# Altium footprint library SN74AUP1G125DPWR.PcbLib: 1 footprints
Each footprint in its own frame and in the unit in brackets; x right, y up, seen from the top. Pads: shape width x height; smd on the part's side, far side on the other; paste and mask are expansions set on the pad; w line width, h text height; cw(c..) or ccw(c..) is an arc to the next point about the centre after c.
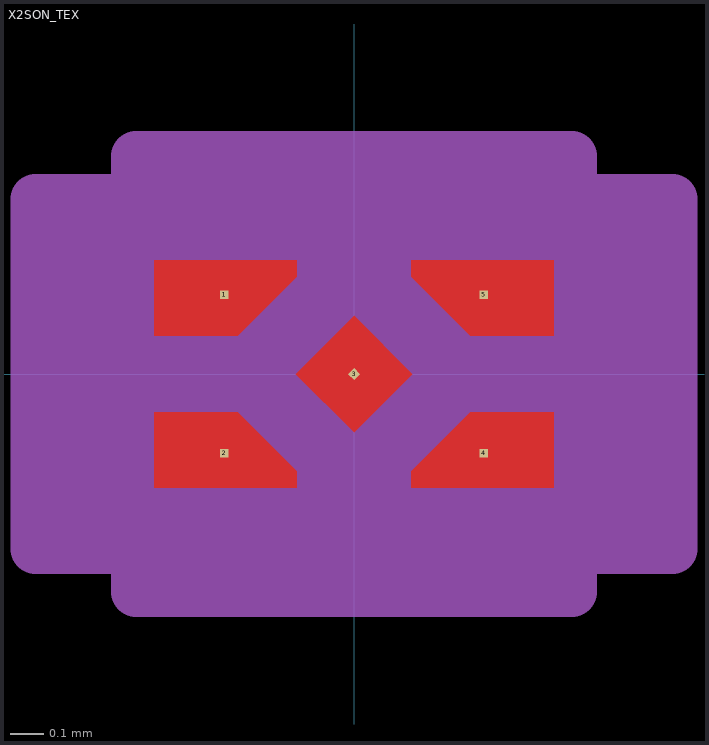
[diagram p0: the footprint, top view; thin cyan lines are the x and y axes]

## X2SON_TEX [mil]
pads (5):
  rect 1x1 smd paste+0 mask+0: 1(-15.5,9.45) 2(-15.5,-9.45) 4(15.5,-9.45) 5(15.5,9.45)
  rect 1x1 smd rot 45 paste+0 mask+0: 3(0,0)
Top Layer:
  region: 6.96,0 0,6.96 -6.96,0 0,-6.96
  region: -6.85,13.6 -23.86,13.59 -23.86,4.59 -13.86,4.59 -6.85,11.6
  region: 23.85,13.6 6.85,13.6 6.85,11.6 13.86,4.59 23.86,4.59
  region: 13.86,-4.59 23.86,-4.59 23.85,-13.6 6.85,-13.6 6.85,-11.6
  region: -13.86,-4.59 -23.86,-4.59 -23.85,-13.6 -6.85,-13.6 -6.85,-11.6
Top Paste:
  region: 6.96,0 0,6.96 -6.96,0 0,-6.96
  region: -6.85,13.6 -23.86,13.59 -23.86,4.59 -13.86,4.59 -6.85,11.6
  region: -13.86,-4.59 -23.86,-4.59 -23.85,-13.6 -6.85,-13.6 -6.85,-11.6
  region: 13.86,-4.59 23.86,-4.59 23.85,-13.6 6.85,-13.6 6.85,-11.6
  region: 23.85,13.6 6.85,13.6 6.85,11.6 13.86,4.59 23.86,4.59
Top Solder:
  region: -4.89,15.57 -25.83,15.56 -25.83,2.63 -12.87,2.63 -4.89,10.61
  region: -12.87,-2.63 -25.83,-2.63 -25.82,-15.57 -4.89,-15.57 -4.89,-10.61
  region: 12.87,-2.63 25.83,-2.63 25.82,-15.57 4.89,-15.57 4.89,-10.61
  region: 25.82,15.57 4.89,15.57 4.89,10.61 12.87,2.63 25.83,2.63
  region: 8.93,0 0,8.93 -8.93,0 0,-8.93
Mechanical 13:
  circle w0: c-8,9.45 r3
  lines w1: -16,-16 16,-16 16,16 -16,16 -16,-16
Mechanical 15:
  region: -26,-20.9 -38,-20.9 -38,20.9 -26,20.9 -26,26 26,26 26,20.9 38,20.9 38,-20.9 26,-20.9 26,-26 -26,-26
  lines w6: -38,-20.9 -38,20.9 -26,20.9 -26,26 26,26 26,20.9 38,20.9 38,-20.9 26,-20.9 26,-26 -26,-26 -26,-20.9 -38,-20.9
3D body "DPW0005B.stp": height 15.55, standoff 0, extent -15.75,-15.75 15.75,15.75